# EAGLE library part USB-C (library Connectors > USB)
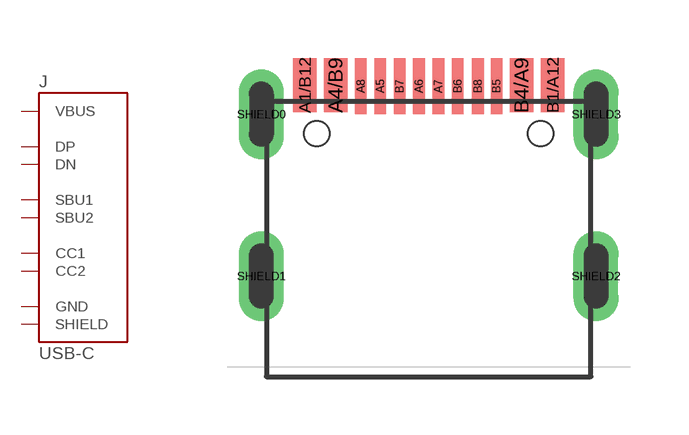
[diagram p3: symbol with the pads of USB-C; footprint USB-C]

Designator prefix J

## USB-C  [USB-C]
A1/B12  GND
A4/B9  VBUS
A5  CC1
A6  DP
A7  DN
A8  SBU1
B1/A12  GND
B4/A9  VBUS
B5  CC2
B6  DP
B7  DN
B8  SBU2
SHIELD0  SHIELD
SHIELD1  SHIELD
SHIELD2  SHIELD
SHIELD3  SHIELD

## Footprint USB-C (pad centres in mm)
smd 0.6 x 1.4: A1/B12 -3.2,7.276; A4/B9 -2.4,7.276; B1/A12 3.2,7.276; B4/A9 2.4,7.276
smd 0.3 x 1.45: A5 -1.25,7.251; A6 -0.25,7.251; A7 0.25,7.251; A8 -1.75,7.251; B5 1.75,7.251; B6 0.75,7.251; B7 -0.75,7.251; B8 1.27,7.251
drill 0.65 pad 1 long: SHIELD0 -4.32,6.526; SHIELD1 -4.32,2.346; SHIELD2 4.32,2.346; SHIELD3 4.32,6.526
hole 0.65 at -2.89,6.026
hole 0.65 at 2.89,6.026